# Altium schematic symbol library MJE2955TG.SchLib: 1 symbol
Pins are listed as number, name and electrical type; pins without a type are passive.

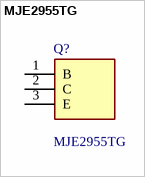
[diagram p0: symbol MJE2955TG]

## MJE2955TG
designator Q?
DC Current Gain Specified to 10 Amperes; High Current Gain - Bandwidth Product - fT = 2.0 MHz (Min) @ IC fT = 500 mAdc; Pb-Free Packages are Available; Manufacturer_Name: onsemi; Geometry.Height: 4.83mm; Mouser Part Number: 863-MJE2955TG; Mouser Price/Stock: https://www.mouser.co.uk/ProductDetail/onsemi/MJE2955TG?qs=HVbQlW5zcXV0Q1cBURTsUg%3D%3D; Manufacturer_Part_Number: MJE2955TG; Datasheet Link: https://www.onsemi.com/pub/Collateral/MJE2955T-D.PDF
footprint TO254P483X1010X2035-3P
pins: 1 B, 2 C, 3 E